# Altium footprint library ESP32 S2 Mini.PcbLib: 1 footprints
Each footprint in its own frame and in the unit in brackets; x right, y up, seen from the top. Pads: shape width x height; smd on the part's side, far side on the other; paste and mask are expansions set on the pad; w line width, h text height; cw(c..) or ccw(c..) is an arc to the next point about the centre after c.
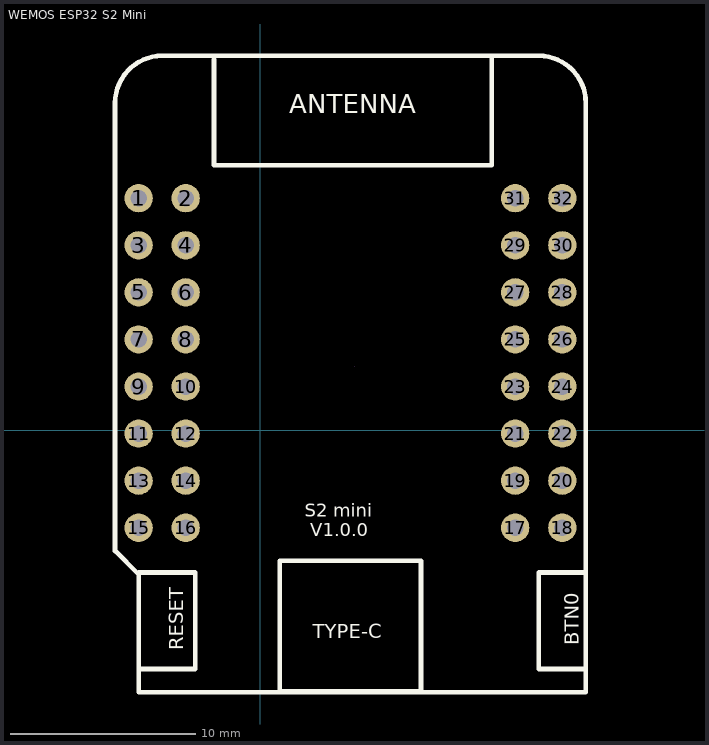
[diagram p0: the footprint, top view; thin cyan lines are the x and y axes]

## WEMOS ESP32 S2 Mini [mil]
pads (32):
  round 60 hole 35 paste+0 mask+4: 1(-257.85,493.4) 2(-157.85,493.4) 3(-257.85,393.4) 4(-157.85,393.4) 5(-257.85,293.4) 6(-157.85,293.4) 7(-257.85,193.4) 8(-157.85,193.4) 9(-257.85,93.4) 10(-157.85,93.4) 11(-257.85,-6.6) 12(-157.85,-6.6) 13(-257.85,-106.6) 14(-157.85,-106.6) 15(-257.85,-206.6) 16(-157.85,-206.6) 17(542.15,-206.6) 18(642.15,-206.6) 19(542.15,-106.6) 20(642.15,-106.6) 21(542.15,-6.6) 22(642.15,-6.6) 23(542.15,93.4) 24(642.15,93.4) 25(542.15,193.4) 26(642.15,193.4) 27(542.15,293.4) 28(642.15,293.4) 29(542.15,393.4) 30(642.15,393.4) 31(542.15,493.4) 32(642.15,493.4)
Top Overlay:
  lines w10: -307.85,694.1 -307.85,-255.9 -257.85,-305.9 -257.85,-555.9 692.15,-555.9 692.15,694.1 ; -307.85,695.9 cw(c-207.85,695.9) -207.85,795.9 592.15,795.9 cw(c592.15,695.9) 692.14,695.9 ; -97.85,788.4 -97.85,563.4 -77.85,563.4 ; 492.15,789.65 492.15,563.4 ; -77.85,563.4 492.15,563.4 ; -77.85,563.4 492.15,563.4 ; -257.85,-506.6 -257.85,-301.6 -137.85,-301.6 -137.85,-306.6 -137.85,-304.1 -137.85,-506.6 -257.85,-506.6 ; 42.15,-554.1 342.15,-554.1 342.15,-276.6 42.15,-276.6 42.15,-554.1 ; 592.15,-506.6 592.15,-301.6 692.15,-301.6 692.15,-311.6 692.15,-506.6 592.15,-506.6
  text "S2 mini /  V1.0.0" at 95,-225 h27.56
  text "ANTENNA" at 62.15,673.4 h40
  text "TYPE-C" at 112.15,-441.6 h30
  text "RESET" at -162.85,-466.6 h30
  text "BTN0" at 677.15,-456.6 h30
Mechanical 15:
  lines w0.1: 200.34,135.89 200.36,135.91